# Altium footprint library Peak.PcbLib: 18 footprints (part 2 of 2)
Each footprint in its own frame and in the unit in brackets; x right, y up, seen from the top. Pads: shape width x height; smd on the part's side, far side on the other; paste and mask are expansions set on the pad; w line width, h text height; cw(c..) or ccw(c..) is an arc to the next point about the centre after c.
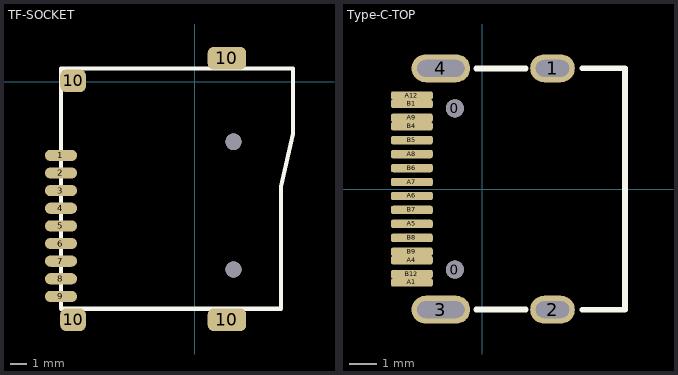
[diagram p1: the footprints below, top view; thin cyan lines are the x and y axes]

## TF-SOCKET [mm]
height 4.3
pads (13):
  oval 2x0.7 smd: 1(-8.331,-4.582) 2(-8.331,-5.682) 3(-8.331,-6.782) 4(-8.331,-7.882) 5(-8.331,-8.982) 6(-8.331,-10.082) 7(-8.331,-11.182) 8(-8.331,-12.282) 9(-8.331,-13.382)
  rrect50% 1.6x1.4 smd: 10(-7.577,-14.836) 10(-7.577,0.068)
  rrect50% 2.4x1.4 smd: 10(2.023,-14.836) 10(2.023,1.476)
via 2.423,-3.732 diameter 1 hole 1
via 2.423,-11.712 diameter 1 hole 1
Top Overlay:
  lines w0.254: -8.331,-14.148 -8.331,0.838 6.147,0.838 6.147,-3.226 5.385,-6.528 5.385,-14.148 -8.331,-14.148
3D body "123.stp": height 2.05, standoff 0.07, extent -8.871,-14.809 8.179,1.291

## Type-C-TOP [mm]
height 4.3
pads (22):
  round 0.65 hole 0.65: 0(-0.98,-2.89) 0(-0.98,2.89)
  oval 1.6x1 hole 0.6 slot 1.2 at 0 deg: 1(2.52,4.325) 2(2.52,-4.325)
  oval 2.1x1 hole 0.6 slot 1.7 at 0 deg: 3(-1.48,-4.325) 4(-1.48,4.325)
  rrect50% 1.5x0.3 smd: A1(-2.52,-3.35) A4(-2.52,-2.55) A5(-2.52,-1.25) A6(-2.52,-0.25) A7(-2.52,0.25) A8(-2.52,1.25) A9(-2.52,2.55) A12(-2.52,3.35) B1(-2.52,3.05) B4(-2.52,2.25) B5(-2.52,1.75) B6(-2.52,0.75) B7(-2.52,-0.75) B8(-2.52,-1.75) B9(-2.52,-2.25) B12(-2.52,-3.05)
Top Overlay:
  lines w0.203: -0.218,-4.318 1.56,-4.318 ; -0.218,4.318 1.56,4.318 ; 3.592,-4.325 5.12,-4.325 5.12,4.325 3.592,4.325
3D body "1.step": height 3.26, standoff -1, extent -2.568,-4.475 5.182,4.475